# Altium integrated library TI Power Management Supervisor and Reset IC.IntLib: 819 symbols (part 5 of 30)
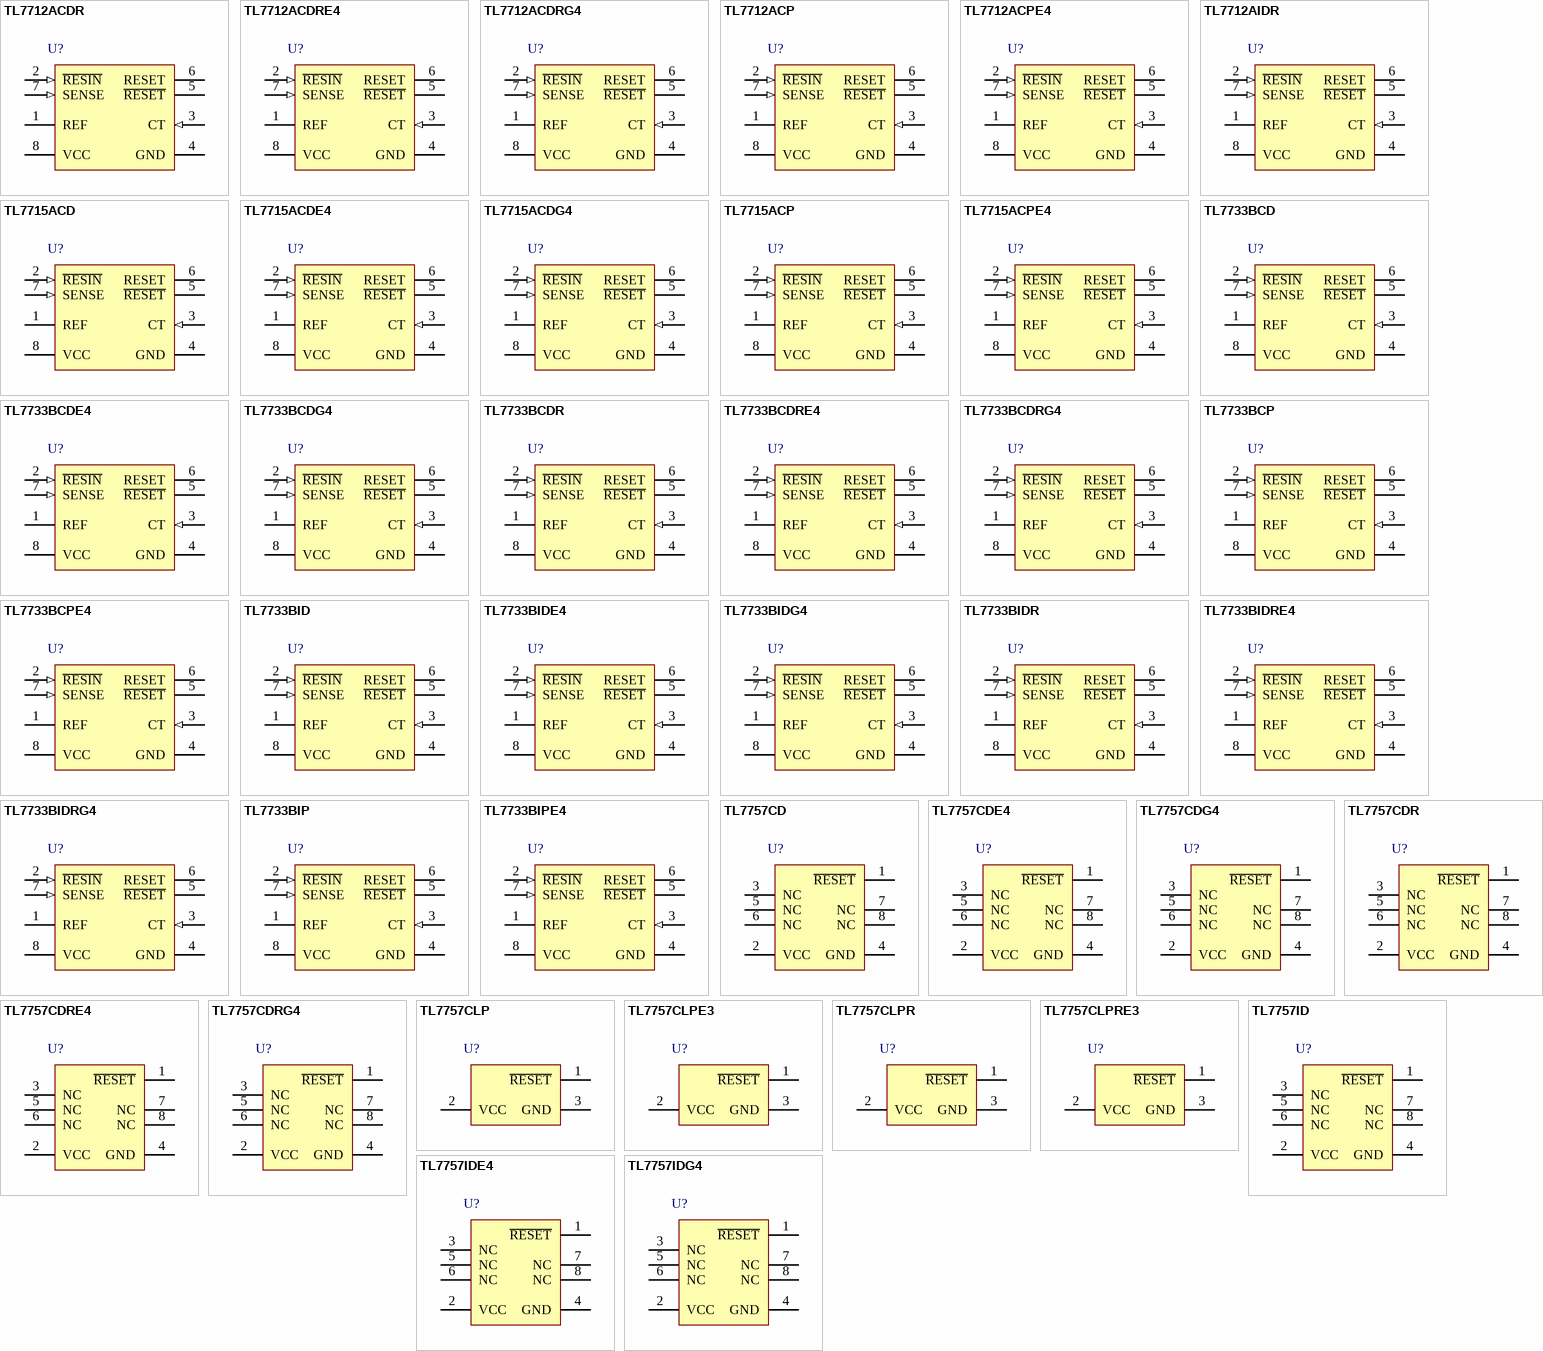
[diagram p25: symbols TL7712ACDR to TL7757IDG4]

## TL7733BCDRG4
designator U?
Single Supply-Voltage Supervisor, 1 Supply Monitored, 0 to 70 degC, 8-pin SOIC (D), Green (RoHS & no Sb/Br); Manufacturer: Texas Instruments; PartNumber: TL7733BCDRG4; # of supplies monitored: 1; Iq(Typ)(uA): 1800; Output Driver Type / Reset Output: Active-low, Open-drain, Active-high, Open-drain; Rating: Catalog; Reset Threshold Accuracy(%): 2.6; SubFamily: Supervisor and Reset IC; Threshold Voltage 1 (typ)(Typ)(V): 3.08; Time Delay(ms): Programmable; VCC(Max)(V): 18; VCC(Min)(V): 3.6; DatasheetVersion: SLVS037M; PackageVersion: revM, Jun-2011; PackageReference: D8; PackageDescription: 8-Pin Plastic Small Outline Integrated Circuit, 4.9 x 3.9 mm, Pitch 1.27 mm Pitch; Supplier 1: Digi-Key; Supplier Part Number 1: TL7733BCDRG4-ND; Supplier 2: Newark; Supplier Part Number 2: 41M5810; Supplier 3: Mouser; Supplier Part Number 3: 595-TL7733BCDRG4; Mounting Technology: Surface Mount; Code_JEDEC: MS-012AA; ComponentLink1Description: Datasheet; ComponentLink1URL: http://www.ti.com/general/docs/lit/getliterature.tsp?genericPartNumber=TL7733B&fileType=pdf
footprint D8_N (SOIC, 8-Leads, Body 4.9x3.9mm, Pitch 1.27mm, IPC Medium Density)
footprint D8_L (SOIC, 8-Leads, Body 4.9x3.9mm, Pitch 1.27mm, IPC High Density)
footprint D8_M (SOIC, 8-Leads, Body 4.9x3.9mm, Pitch 1.27mm, IPC Low Density)
pins: 1 REF, 2 ~{RESIN} (in), 3 CT (in), 4 GND (power), 5 ~{RESET} (oc), 6 RESET (oe), 7 SENSE (in), 8 VCC (power)

## TL7733BCP
designator U?
Single Supply-Voltage Supervisor, 1 Supply Monitored, 0 to 70 degC, 8-pin PDIP (P), Pb-Free (RoHS); Manufacturer: Texas Instruments; PartNumber: TL7733BCP; # of supplies monitored: 1; Iq(Typ)(uA): 1800; Output Driver Type / Reset Output: Active-low, Open-drain, Active-high, Open-drain; Rating: Catalog; Reset Threshold Accuracy(%): 2.6; SubFamily: Supervisor and Reset IC; Threshold Voltage 1 (typ)(Typ)(V): 3.08; Time Delay(ms): Programmable; VCC(Max)(V): 18; VCC(Min)(V): 3.6; DatasheetVersion: SLVS037M; PackageVersion: revE, Apr-2010; PackageReference: P8; PackageDescription: 8-Pin Plastic Dual-In-Line Package, Row Spacing 7.62 mm, Pitch 2.54 mm; Supplier 1: Digi-Key; Supplier Part Number 1: 296-12953-5-ND; Supplier 2: Newark; Supplier Part Number 2: 76C9372; Supplier 3: Mouser; Supplier Part Number 3: 595-TL7733BCP; Mounting Technology: Through Hole; Code_JEDEC: MS-001-BA; ComponentLink1Description: Datasheet; ComponentLink1URL: http://www.ti.com/general/docs/lit/getliterature.tsp?genericPartNumber=TL7733B&fileType=pdf
footprint P8 (DIP, 8-Leads, Row Spacing 7.62mm, Pitch 2.54mm, Body 9.6x6.4mm)
pins: 1 REF, 2 ~{RESIN} (in), 3 CT (in), 4 GND (power), 5 ~{RESET} (oc), 6 RESET (oe), 7 SENSE (in), 8 VCC (power)

## TL7733BCPE4
designator U?
Single Supply-Voltage Supervisor, 1 Supply Monitored, 0 to 70 degC, 8-pin PDIP (P), Pb-Free (RoHS); Manufacturer: Texas Instruments; PartNumber: TL7733BCPE4; # of supplies monitored: 1; Iq(Typ)(uA): 1800; Output Driver Type / Reset Output: Active-low, Open-drain, Active-high, Open-drain; Rating: Catalog; Reset Threshold Accuracy(%): 2.6; SubFamily: Supervisor and Reset IC; Threshold Voltage 1 (typ)(Typ)(V): 3.08; Time Delay(ms): Programmable; VCC(Max)(V): 18; VCC(Min)(V): 3.6; DatasheetVersion: SLVS037M; PackageVersion: revE, Apr-2010; PackageReference: P8; PackageDescription: 8-Pin Plastic Dual-In-Line Package, Row Spacing 7.62 mm, Pitch 2.54 mm; Supplier 1: Digi-Key; Supplier Part Number 1: TL7733BCPE4-ND; Supplier 2: Newark; Supplier Part Number 2: 37K4605; Supplier 3: Mouser; Supplier Part Number 3: 595-TL7733BCPE4; Mounting Technology: Through Hole; Code_JEDEC: MS-001-BA; ComponentLink1Description: Datasheet; ComponentLink1URL: http://www.ti.com/general/docs/lit/getliterature.tsp?genericPartNumber=TL7733B&fileType=pdf
footprint P8 (DIP, 8-Leads, Row Spacing 7.62mm, Pitch 2.54mm, Body 9.6x6.4mm)
pins: 1 REF, 2 ~{RESIN} (in), 3 CT (in), 4 GND (power), 5 ~{RESET} (oc), 6 RESET (oe), 7 SENSE (in), 8 VCC (power)

## TL7733BID
designator U?
Single Supply-Voltage Supervisor, 1 Supply Monitored, -40 to 85 degC, 8-pin SOIC (D), Green (RoHS & no Sb/Br); Manufacturer: Texas Instruments; PartNumber: TL7733BID; # of supplies monitored: 1; Iq(Typ)(uA): 1800; Output Driver Type / Reset Output: Active-low, Open-drain, Active-high, Open-drain; Rating: Catalog; Reset Threshold Accuracy(%): 2.6; SubFamily: Supervisor and Reset IC; Threshold Voltage 1 (typ)(Typ)(V): 3.08; Time Delay(ms): Programmable; VCC(Max)(V): 18; VCC(Min)(V): 3.6; DatasheetVersion: SLVS037M; PackageVersion: revM, Jun-2011; PackageReference: D8; PackageDescription: 8-Pin Plastic Small Outline Integrated Circuit, 4.9 x 3.9 mm, Pitch 1.27 mm Pitch; Supplier 1: Digi-Key; Supplier Part Number 1: TL7733BID-ND; Supplier 2: Newark; Supplier Part Number 2: 76C9373; Supplier 3: Mouser; Supplier Part Number 3: 595-TL7733BID; Mounting Technology: Surface Mount; Code_JEDEC: MS-012AA; ComponentLink1Description: Datasheet; ComponentLink1URL: http://www.ti.com/general/docs/lit/getliterature.tsp?genericPartNumber=TL7733B&fileType=pdf
footprint D8_N (SOIC, 8-Leads, Body 4.9x3.9mm, Pitch 1.27mm, IPC Medium Density)
footprint D8_L (SOIC, 8-Leads, Body 4.9x3.9mm, Pitch 1.27mm, IPC High Density)
footprint D8_M (SOIC, 8-Leads, Body 4.9x3.9mm, Pitch 1.27mm, IPC Low Density)
pins: 1 REF, 2 ~{RESIN} (in), 3 CT (in), 4 GND (power), 5 ~{RESET} (oc), 6 RESET (oe), 7 SENSE (in), 8 VCC (power)

## TL7733BIDE4
designator U?
Single Supply-Voltage Supervisor, 1 Supply Monitored, -40 to 85 degC, 8-pin SOIC (D), Green (RoHS & no Sb/Br); Manufacturer: Texas Instruments; PartNumber: TL7733BIDE4; # of supplies monitored: 1; Iq(Typ)(uA): 1800; Output Driver Type / Reset Output: Active-low, Open-drain, Active-high, Open-drain; Rating: Catalog; Reset Threshold Accuracy(%): 2.6; SubFamily: Supervisor and Reset IC; Threshold Voltage 1 (typ)(Typ)(V): 3.08; Time Delay(ms): Programmable; VCC(Max)(V): 18; VCC(Min)(V): 3.6; DatasheetVersion: SLVS037M; PackageVersion: revM, Jun-2011; PackageReference: D8; PackageDescription: 8-Pin Plastic Small Outline Integrated Circuit, 4.9 x 3.9 mm, Pitch 1.27 mm Pitch; Supplier 1: Digi-Key; Supplier Part Number 1: TL7733BIDE4-ND; Supplier 2: Newark; Supplier Part Number 2: 37K4606; Supplier 3: Mouser; Supplier Part Number 3: 595-TL7733BIDE4; Mounting Technology: Surface Mount; Code_JEDEC: MS-012AA; ComponentLink1Description: Datasheet; ComponentLink1URL: http://www.ti.com/general/docs/lit/getliterature.tsp?genericPartNumber=TL7733B&fileType=pdf
footprint D8_N (SOIC, 8-Leads, Body 4.9x3.9mm, Pitch 1.27mm, IPC Medium Density)
footprint D8_L (SOIC, 8-Leads, Body 4.9x3.9mm, Pitch 1.27mm, IPC High Density)
footprint D8_M (SOIC, 8-Leads, Body 4.9x3.9mm, Pitch 1.27mm, IPC Low Density)
pins: 1 REF, 2 ~{RESIN} (in), 3 CT (in), 4 GND (power), 5 ~{RESET} (oc), 6 RESET (oe), 7 SENSE (in), 8 VCC (power)

## TL7733BIDG4
designator U?
Single Supply-Voltage Supervisor, 1 Supply Monitored, -40 to 85 degC, 8-pin SOIC (D), Green (RoHS & no Sb/Br); Manufacturer: Texas Instruments; PartNumber: TL7733BIDG4; # of supplies monitored: 1; Iq(Typ)(uA): 1800; Output Driver Type / Reset Output: Active-low, Open-drain, Active-high, Open-drain; Rating: Catalog; Reset Threshold Accuracy(%): 2.6; SubFamily: Supervisor and Reset IC; Threshold Voltage 1 (typ)(Typ)(V): 3.08; Time Delay(ms): Programmable; VCC(Max)(V): 18; VCC(Min)(V): 3.6; DatasheetVersion: SLVS037M; PackageVersion: revM, Jun-2011; PackageReference: D8; PackageDescription: 8-Pin Plastic Small Outline Integrated Circuit, 4.9 x 3.9 mm, Pitch 1.27 mm Pitch; Supplier 1: Digi-Key; Supplier Part Number 1: TL7733BIDG4-ND; Supplier 2: Newark; Supplier Part Number 2: 41M5811; Supplier 3: Mouser; Supplier Part Number 3: 595-TL7733BIDG4; Mounting Technology: Surface Mount; Code_JEDEC: MS-012AA; ComponentLink1Description: Datasheet; ComponentLink1URL: http://www.ti.com/general/docs/lit/getliterature.tsp?genericPartNumber=TL7733B&fileType=pdf
footprint D8_N (SOIC, 8-Leads, Body 4.9x3.9mm, Pitch 1.27mm, IPC Medium Density)
footprint D8_L (SOIC, 8-Leads, Body 4.9x3.9mm, Pitch 1.27mm, IPC High Density)
footprint D8_M (SOIC, 8-Leads, Body 4.9x3.9mm, Pitch 1.27mm, IPC Low Density)
pins: 1 REF, 2 ~{RESIN} (in), 3 CT (in), 4 GND (power), 5 ~{RESET} (oc), 6 RESET (oe), 7 SENSE (in), 8 VCC (power)

## TL7733BIDR
designator U?
Single Supply-Voltage Supervisor, 1 Supply Monitored, -40 to 85 degC, 8-pin SOIC (D), Green (RoHS & no Sb/Br); Manufacturer: Texas Instruments; PartNumber: TL7733BIDR; # of supplies monitored: 1; Iq(Typ)(uA): 1800; Output Driver Type / Reset Output: Active-low, Open-drain, Active-high, Open-drain; Rating: Catalog; Reset Threshold Accuracy(%): 2.6; SubFamily: Supervisor and Reset IC; Threshold Voltage 1 (typ)(Typ)(V): 3.08; Time Delay(ms): Programmable; VCC(Max)(V): 18; VCC(Min)(V): 3.6; DatasheetVersion: SLVS037M; PackageVersion: revM, Jun-2011; PackageReference: D8; PackageDescription: 8-Pin Plastic Small Outline Integrated Circuit, 4.9 x 3.9 mm, Pitch 1.27 mm Pitch; Supplier 1: Digi-Key; Supplier Part Number 1: 296-13356-2-ND; Supplier 2: Digi-Key; Supplier Part Number 2: 296-13356-1-ND; Supplier 3: Digi-Key; Supplier Part Number 3: 296-13356-6-ND; Supplier 4: Newark; Supplier Part Number 4: 76C9374; Supplier 5: Mouser; Supplier Part Number 5: 595-TL7733BIDR; Mounting Technology: Surface Mount; Code_JEDEC: MS-012AA; ComponentLink1Description: Datasheet; ComponentLink1URL: http://www.ti.com/general/docs/lit/getliterature.tsp?genericPartNumber=TL7733B&fileType=pdf
footprint D8_N (SOIC, 8-Leads, Body 4.9x3.9mm, Pitch 1.27mm, IPC Medium Density)
footprint D8_L (SOIC, 8-Leads, Body 4.9x3.9mm, Pitch 1.27mm, IPC High Density)
footprint D8_M (SOIC, 8-Leads, Body 4.9x3.9mm, Pitch 1.27mm, IPC Low Density)
pins: 1 REF, 2 ~{RESIN} (in), 3 CT (in), 4 GND (power), 5 ~{RESET} (oc), 6 RESET (oe), 7 SENSE (in), 8 VCC (power)

## TL7733BIDRE4
designator U?
Single Supply-Voltage Supervisor, 1 Supply Monitored, -40 to 85 degC, 8-pin SOIC (D), Green (RoHS & no Sb/Br); Manufacturer: Texas Instruments; PartNumber: TL7733BIDRE4; # of supplies monitored: 1; Iq(Typ)(uA): 1800; Output Driver Type / Reset Output: Active-low, Open-drain, Active-high, Open-drain; Rating: Catalog; Reset Threshold Accuracy(%): 2.6; SubFamily: Supervisor and Reset IC; Threshold Voltage 1 (typ)(Typ)(V): 3.08; Time Delay(ms): Programmable; VCC(Max)(V): 18; VCC(Min)(V): 3.6; DatasheetVersion: SLVS037M; PackageVersion: revM, Jun-2011; PackageReference: D8; PackageDescription: 8-Pin Plastic Small Outline Integrated Circuit, 4.9 x 3.9 mm, Pitch 1.27 mm Pitch; Supplier 1: Digi-Key; Supplier Part Number 1: TL7733BIDRE4-ND; Supplier 2: Newark; Supplier Part Number 2: 37K4607; Supplier 3: Mouser; Supplier Part Number 3: 595-TL7733BIDRE4; Mounting Technology: Surface Mount; Code_JEDEC: MS-012AA; ComponentLink1Description: Datasheet; ComponentLink1URL: http://www.ti.com/general/docs/lit/getliterature.tsp?genericPartNumber=TL7733B&fileType=pdf
footprint D8_N (SOIC, 8-Leads, Body 4.9x3.9mm, Pitch 1.27mm, IPC Medium Density)
footprint D8_L (SOIC, 8-Leads, Body 4.9x3.9mm, Pitch 1.27mm, IPC High Density)
footprint D8_M (SOIC, 8-Leads, Body 4.9x3.9mm, Pitch 1.27mm, IPC Low Density)
pins: 1 REF, 2 ~{RESIN} (in), 3 CT (in), 4 GND (power), 5 ~{RESET} (oc), 6 RESET (oe), 7 SENSE (in), 8 VCC (power)

## TL7733BIDRG4
designator U?
Single Supply-Voltage Supervisor, 1 Supply Monitored, -40 to 85 degC, 8-pin SOIC (D), Green (RoHS & no Sb/Br); Manufacturer: Texas Instruments; PartNumber: TL7733BIDRG4; # of supplies monitored: 1; Iq(Typ)(uA): 1800; Output Driver Type / Reset Output: Active-low, Open-drain, Active-high, Open-drain; Rating: Catalog; Reset Threshold Accuracy(%): 2.6; SubFamily: Supervisor and Reset IC; Threshold Voltage 1 (typ)(Typ)(V): 3.08; Time Delay(ms): Programmable; VCC(Max)(V): 18; VCC(Min)(V): 3.6; DatasheetVersion: SLVS037M; PackageVersion: revM, Jun-2011; PackageReference: D8; PackageDescription: 8-Pin Plastic Small Outline Integrated Circuit, 4.9 x 3.9 mm, Pitch 1.27 mm Pitch; Supplier 1: Digi-Key; Supplier Part Number 1: TL7733BIDRG4-ND; Supplier 2: Newark; Supplier Part Number 2: 41M5812; Supplier 3: Mouser; Supplier Part Number 3: 595-TL7733BIDRG4; Mounting Technology: Surface Mount; Code_JEDEC: MS-012AA; ComponentLink1Description: Datasheet; ComponentLink1URL: http://www.ti.com/general/docs/lit/getliterature.tsp?genericPartNumber=TL7733B&fileType=pdf
footprint D8_N (SOIC, 8-Leads, Body 4.9x3.9mm, Pitch 1.27mm, IPC Medium Density)
footprint D8_L (SOIC, 8-Leads, Body 4.9x3.9mm, Pitch 1.27mm, IPC High Density)
footprint D8_M (SOIC, 8-Leads, Body 4.9x3.9mm, Pitch 1.27mm, IPC Low Density)
pins: 1 REF, 2 ~{RESIN} (in), 3 CT (in), 4 GND (power), 5 ~{RESET} (oc), 6 RESET (oe), 7 SENSE (in), 8 VCC (power)

## TL7733BIP
designator U?
Single Supply-Voltage Supervisor, 1 Supply Monitored, -40 to 85 degC, 8-pin PDIP (P), Pb-Free (RoHS); Manufacturer: Texas Instruments; PartNumber: TL7733BIP; # of supplies monitored: 1; Iq(Typ)(uA): 1800; Output Driver Type / Reset Output: Active-low, Open-drain, Active-high, Open-drain; Rating: Catalog; Reset Threshold Accuracy(%): 2.6; SubFamily: Supervisor and Reset IC; Threshold Voltage 1 (typ)(Typ)(V): 3.08; Time Delay(ms): Programmable; VCC(Max)(V): 18; VCC(Min)(V): 3.6; DatasheetVersion: SLVS037M; PackageVersion: revE, Apr-2010; PackageReference: P8; PackageDescription: 8-Pin Plastic Dual-In-Line Package, Row Spacing 7.62 mm, Pitch 2.54 mm; Supplier 1: Digi-Key; Supplier Part Number 1: 296-13357-5-ND; Supplier 2: Newark; Supplier Part Number 2: 76C9375; Supplier 3: Mouser; Supplier Part Number 3: 595-TL7733BIP; Mounting Technology: Through Hole; Code_JEDEC: MS-001-BA; ComponentLink1Description: Datasheet; ComponentLink1URL: http://www.ti.com/general/docs/lit/getliterature.tsp?genericPartNumber=TL7733B&fileType=pdf
footprint P8 (DIP, 8-Leads, Row Spacing 7.62mm, Pitch 2.54mm, Body 9.6x6.4mm)
pins: 1 REF, 2 ~{RESIN} (in), 3 CT (in), 4 GND (power), 5 ~{RESET} (oc), 6 RESET (oe), 7 SENSE (in), 8 VCC (power)

## TL7733BIPE4
designator U?
Single Supply-Voltage Supervisor, 1 Supply Monitored, -40 to 85 degC, 8-pin PDIP (P), Pb-Free (RoHS); Manufacturer: Texas Instruments; PartNumber: TL7733BIPE4; # of supplies monitored: 1; Iq(Typ)(uA): 1800; Output Driver Type / Reset Output: Active-low, Open-drain, Active-high, Open-drain; Rating: Catalog; Reset Threshold Accuracy(%): 2.6; SubFamily: Supervisor and Reset IC; Threshold Voltage 1 (typ)(Typ)(V): 3.08; Time Delay(ms): Programmable; VCC(Max)(V): 18; VCC(Min)(V): 3.6; DatasheetVersion: SLVS037M; PackageVersion: revE, Apr-2010; PackageReference: P8; PackageDescription: 8-Pin Plastic Dual-In-Line Package, Row Spacing 7.62 mm, Pitch 2.54 mm; Supplier 1: Digi-Key; Supplier Part Number 1: TL7733BIPE4-ND; Supplier 2: Newark; Supplier Part Number 2: 37K4608; Supplier 3: Mouser; Supplier Part Number 3: 595-TL7733BIPE4; Mounting Technology: Through Hole; Code_JEDEC: MS-001-BA; ComponentLink1Description: Datasheet; ComponentLink1URL: http://www.ti.com/general/docs/lit/getliterature.tsp?genericPartNumber=TL7733B&fileType=pdf
footprint P8 (DIP, 8-Leads, Row Spacing 7.62mm, Pitch 2.54mm, Body 9.6x6.4mm)
pins: 1 REF, 2 ~{RESIN} (in), 3 CT (in), 4 GND (power), 5 ~{RESET} (oc), 6 RESET (oe), 7 SENSE (in), 8 VCC (power)

## TL7757CD
designator U?
Supply-Voltage Supervisor and Precision Voltage Detector, 1 Supply Monitored, 0 to 70 degC, 8-pin SOIC (D), Green (RoHS & no Sb/Br); Manufacturer: Texas Instruments; PartNumber: TL7757CD; # of supplies monitored: 1; Iq(Typ)(uA): 1400; Output Driver Type / Reset Output: Active-low, Open-drain; Rating: Military; Reset Threshold Accuracy(%): 2.6; SubFamily: Supervisor and Reset IC; Threshold Voltage 1 (typ)(Typ)(V): 4.55; VCC(Max)(V): 7; DatasheetVersion: SLVS041I; PackageVersion: revM, Jun-2011; PackageReference: D8; PackageDescription: 8-Pin Plastic Small Outline Integrated Circuit, 4.9 x 3.9 mm, Pitch 1.27 mm Pitch; Supplier 1: Digi-Key; Supplier Part Number 1: 296-3257-5-ND; Supplier 2: Newark; Supplier Part Number 2: 12C1488; Supplier 3: Mouser; Supplier Part Number 3: 595-TL7757CD; VCC(Min)(V): 1; Mounting Technology: Surface Mount; Code_JEDEC: MS-012AA; ComponentLink1Description: Datasheet; ComponentLink1URL: http://www.ti.com/general/docs/lit/getliterature.tsp?genericPartNumber=TL7757&fileType=pdf
footprint D8_N (SOIC, 8-Leads, Body 4.9x3.9mm, Pitch 1.27mm, IPC Medium Density)
footprint D8_L (SOIC, 8-Leads, Body 4.9x3.9mm, Pitch 1.27mm, IPC High Density)
footprint D8_M (SOIC, 8-Leads, Body 4.9x3.9mm, Pitch 1.27mm, IPC Low Density)
pins: 1 ~{RESET} (oc), 2 VCC (power), 3 NC, 4 GND (power), 5 NC, 6 NC, 7 NC, 8 NC

## TL7757CDE4
designator U?
Supply-Voltage Supervisor and Precision Voltage Detector, 1 Supply Monitored, 0 to 70 degC, 8-pin SOIC (D), Green (RoHS & no Sb/Br); Manufacturer: Texas Instruments; PartNumber: TL7757CDE4; # of supplies monitored: 1; Iq(Typ)(uA): 1400; Output Driver Type / Reset Output: Active-low, Open-drain; Rating: Military; Reset Threshold Accuracy(%): 2.6; SubFamily: Supervisor and Reset IC; Threshold Voltage 1 (typ)(Typ)(V): 4.55; VCC(Max)(V): 7; DatasheetVersion: SLVS041I; PackageVersion: revM, Jun-2011; PackageReference: D8; PackageDescription: 8-Pin Plastic Small Outline Integrated Circuit, 4.9 x 3.9 mm, Pitch 1.27 mm Pitch; Supplier 1: Digi-Key; Supplier Part Number 1: TL7757CDE4-ND; Supplier 2: Newark; Supplier Part Number 2: 37K4609; Supplier 3: Mouser; Supplier Part Number 3: 595-TL7757CDE4; VCC(Min)(V): 1; Mounting Technology: Surface Mount; Code_JEDEC: MS-012AA; ComponentLink1Description: Datasheet; ComponentLink1URL: http://www.ti.com/general/docs/lit/getliterature.tsp?genericPartNumber=TL7757&fileType=pdf
footprint D8_N (SOIC, 8-Leads, Body 4.9x3.9mm, Pitch 1.27mm, IPC Medium Density)
footprint D8_L (SOIC, 8-Leads, Body 4.9x3.9mm, Pitch 1.27mm, IPC High Density)
footprint D8_M (SOIC, 8-Leads, Body 4.9x3.9mm, Pitch 1.27mm, IPC Low Density)
pins: 1 ~{RESET} (oc), 2 VCC (power), 3 NC, 4 GND (power), 5 NC, 6 NC, 7 NC, 8 NC

## TL7757CDG4
designator U?
Supply-Voltage Supervisor and Precision Voltage Detector, 1 Supply Monitored, 0 to 70 degC, 8-pin SOIC (D), Green (RoHS & no Sb/Br); Manufacturer: Texas Instruments; PartNumber: TL7757CDG4; # of supplies monitored: 1; Iq(Typ)(uA): 1400; Output Driver Type / Reset Output: Active-low, Open-drain; Rating: Military; Reset Threshold Accuracy(%): 2.6; SubFamily: Supervisor and Reset IC; Threshold Voltage 1 (typ)(Typ)(V): 4.55; VCC(Max)(V): 7; DatasheetVersion: SLVS041I; PackageVersion: revM, Jun-2011; PackageReference: D8; PackageDescription: 8-Pin Plastic Small Outline Integrated Circuit, 4.9 x 3.9 mm, Pitch 1.27 mm Pitch; Supplier 1: Digi-Key; Supplier Part Number 1: TL7757CDG4-ND; Supplier 2: Newark; Supplier Part Number 2: 41M5813; Supplier 3: Mouser; Supplier Part Number 3: 595-TL7757CDG4; VCC(Min)(V): 1; Mounting Technology: Surface Mount; Code_JEDEC: MS-012AA; ComponentLink1Description: Datasheet; ComponentLink1URL: http://www.ti.com/general/docs/lit/getliterature.tsp?genericPartNumber=TL7757&fileType=pdf
footprint D8_N (SOIC, 8-Leads, Body 4.9x3.9mm, Pitch 1.27mm, IPC Medium Density)
footprint D8_L (SOIC, 8-Leads, Body 4.9x3.9mm, Pitch 1.27mm, IPC High Density)
footprint D8_M (SOIC, 8-Leads, Body 4.9x3.9mm, Pitch 1.27mm, IPC Low Density)
pins: 1 ~{RESET} (oc), 2 VCC (power), 3 NC, 4 GND (power), 5 NC, 6 NC, 7 NC, 8 NC

## TL7757CDR
designator U?
Supply-Voltage Supervisor and Precision Voltage Detector, 1 Supply Monitored, 0 to 70 degC, 8-pin SOIC (D), Green (RoHS & no Sb/Br); Manufacturer: Texas Instruments; PartNumber: TL7757CDR; # of supplies monitored: 1; Iq(Typ)(uA): 1400; Output Driver Type / Reset Output: Active-low, Open-drain; Rating: Military; Reset Threshold Accuracy(%): 2.6; SubFamily: Supervisor and Reset IC; Threshold Voltage 1 (typ)(Typ)(V): 4.55; VCC(Max)(V): 7; DatasheetVersion: SLVS041I; PackageVersion: revM, Jun-2011; PackageReference: D8; PackageDescription: 8-Pin Plastic Small Outline Integrated Circuit, 4.9 x 3.9 mm, Pitch 1.27 mm Pitch; Supplier 1: Digi-Key; Supplier Part Number 1: 296-15023-2-ND; Supplier 2: Digi-Key; Supplier Part Number 2: 296-15023-1-ND; Supplier 3: Digi-Key; Supplier Part Number 3: 296-15023-6-ND; Supplier 4: Newark; Supplier Part Number 4: 76C9376; Supplier 5: Mouser; Supplier Part Number 5: 595-TL7757CDR; VCC(Min)(V): 1; Mounting Technology: Surface Mount; Code_JEDEC: MS-012AA; ComponentLink1Description: Datasheet; ComponentLink1URL: http://www.ti.com/general/docs/lit/getliterature.tsp?genericPartNumber=TL7757&fileType=pdf
footprint D8_N (SOIC, 8-Leads, Body 4.9x3.9mm, Pitch 1.27mm, IPC Medium Density)
footprint D8_L (SOIC, 8-Leads, Body 4.9x3.9mm, Pitch 1.27mm, IPC High Density)
footprint D8_M (SOIC, 8-Leads, Body 4.9x3.9mm, Pitch 1.27mm, IPC Low Density)
pins: 1 ~{RESET} (oc), 2 VCC (power), 3 NC, 4 GND (power), 5 NC, 6 NC, 7 NC, 8 NC

## TL7757CDRE4
designator U?
Supply-Voltage Supervisor and Precision Voltage Detector, 1 Supply Monitored, 0 to 70 degC, 8-pin SOIC (D), Green (RoHS & no Sb/Br); Manufacturer: Texas Instruments; PartNumber: TL7757CDRE4; # of supplies monitored: 1; Iq(Typ)(uA): 1400; Output Driver Type / Reset Output: Active-low, Open-drain; Rating: Military; Reset Threshold Accuracy(%): 2.6; SubFamily: Supervisor and Reset IC; Threshold Voltage 1 (typ)(Typ)(V): 4.55; VCC(Max)(V): 7; DatasheetVersion: SLVS041I; PackageVersion: revM, Jun-2011; PackageReference: D8; PackageDescription: 8-Pin Plastic Small Outline Integrated Circuit, 4.9 x 3.9 mm, Pitch 1.27 mm Pitch; Supplier 1: Digi-Key; Supplier Part Number 1: TL7757CDRE4-ND; Supplier 2: Newark; Supplier Part Number 2: 37K4610; Supplier 3: Mouser; Supplier Part Number 3: 595-TL7757CDRE4; VCC(Min)(V): 1; Mounting Technology: Surface Mount; Code_JEDEC: MS-012AA; ComponentLink1Description: Datasheet; ComponentLink1URL: http://www.ti.com/general/docs/lit/getliterature.tsp?genericPartNumber=TL7757&fileType=pdf
footprint D8_N (SOIC, 8-Leads, Body 4.9x3.9mm, Pitch 1.27mm, IPC Medium Density)
footprint D8_L (SOIC, 8-Leads, Body 4.9x3.9mm, Pitch 1.27mm, IPC High Density)
footprint D8_M (SOIC, 8-Leads, Body 4.9x3.9mm, Pitch 1.27mm, IPC Low Density)
pins: 1 ~{RESET} (oc), 2 VCC (power), 3 NC, 4 GND (power), 5 NC, 6 NC, 7 NC, 8 NC

## TL7757CDRG4
designator U?
Supply-Voltage Supervisor and Precision Voltage Detector, 1 Supply Monitored, 0 to 70 degC, 8-pin SOIC (D), Green (RoHS & no Sb/Br); Manufacturer: Texas Instruments; PartNumber: TL7757CDRG4; # of supplies monitored: 1; Iq(Typ)(uA): 1400; Output Driver Type / Reset Output: Active-low, Open-drain; Rating: Military; Reset Threshold Accuracy(%): 2.6; SubFamily: Supervisor and Reset IC; Threshold Voltage 1 (typ)(Typ)(V): 4.55; VCC(Max)(V): 7; DatasheetVersion: SLVS041I; PackageVersion: revM, Jun-2011; PackageReference: D8; PackageDescription: 8-Pin Plastic Small Outline Integrated Circuit, 4.9 x 3.9 mm, Pitch 1.27 mm Pitch; Supplier 1: Digi-Key; Supplier Part Number 1: TL7757CDRG4-ND; Supplier 2: Newark; Supplier Part Number 2: 41M5814; Supplier 3: Mouser; Supplier Part Number 3: 595-TL7757CDRG4; VCC(Min)(V): 1; Mounting Technology: Surface Mount; Code_JEDEC: MS-012AA; ComponentLink1Description: Datasheet; ComponentLink1URL: http://www.ti.com/general/docs/lit/getliterature.tsp?genericPartNumber=TL7757&fileType=pdf
footprint D8_N (SOIC, 8-Leads, Body 4.9x3.9mm, Pitch 1.27mm, IPC Medium Density)
footprint D8_L (SOIC, 8-Leads, Body 4.9x3.9mm, Pitch 1.27mm, IPC High Density)
footprint D8_M (SOIC, 8-Leads, Body 4.9x3.9mm, Pitch 1.27mm, IPC Low Density)
pins: 1 ~{RESET} (oc), 2 VCC (power), 3 NC, 4 GND (power), 5 NC, 6 NC, 7 NC, 8 NC

## TL7757CLP
designator U?
Supply-Voltage Supervisor and Precision Voltage Detector, 1 Supply Monitored, 0 to 70 degC, 3-pin TO-92 (LP), Pb-Free (RoHS); Manufacturer: Texas Instruments; PartNumber: TL7757CLP; # of supplies monitored: 1; Iq(Typ)(uA): 1400; Output Driver Type / Reset Output: Active-low, Open-drain; Rating: Military; Reset Threshold Accuracy(%): 2.6; SubFamily: Supervisor and Reset IC; Threshold Voltage 1 (typ)(Typ)(V): 4.55; VCC(Max)(V): 7; DatasheetVersion: SLVS041I; PackageVersion: revC, Oct-2001; PackageReference: LP3; PackageDescription: Plastic Cylindrical Package, Formed Lead Option (TO-92); Supplier 1: Digi-Key; Supplier Part Number 1: 296-1992-ND; Supplier 2: Newark; Supplier Part Number 2: 14P7549; Supplier 3: Mouser; Supplier Part Number 3: 595-TL7757CLP; VCC(Min)(V): 1; Mounting Technology: Through Hole; Code_JEDEC: TO-226-AA; ComponentLink1Description: Datasheet; ComponentLink1URL: http://www.ti.com/general/docs/lit/getliterature.tsp?genericPartNumber=TL7757&fileType=pdf
footprint LP3 (TO, Flat Index; 3 In-Line, Formed Axial Leads; Body Dia. 4.8mm; Leads 0.56 x 0.41 mm (max))
pins: 1 ~{RESET} (oc), 2 VCC (power), 3 GND (power)

## TL7757CLPE3
designator U?
Supply-Voltage Supervisor and Precision Voltage Detector, 1 Supply Monitored, 0 to 70 degC, 3-pin TO-92 (LP), Pb-Free (RoHS); Manufacturer: Texas Instruments; PartNumber: TL7757CLPE3; # of supplies monitored: 1; Iq(Typ)(uA): 1400; Output Driver Type / Reset Output: Active-low, Open-drain; Rating: Military; Reset Threshold Accuracy(%): 2.6; SubFamily: Supervisor and Reset IC; Threshold Voltage 1 (typ)(Typ)(V): 4.55; VCC(Max)(V): 7; DatasheetVersion: SLVS041I; PackageVersion: revC, Oct-2001; PackageReference: LP3; PackageDescription: Plastic Cylindrical Package, Formed Lead Option (TO-92); Supplier 1: Digi-Key; Supplier Part Number 1: TL7757CLPE3-ND; Supplier 2: Newark; Supplier Part Number 2: 67K8556; Supplier 3: Mouser; Supplier Part Number 3: 595-TL7757CLPE3; VCC(Min)(V): 1; Mounting Technology: Through Hole; Code_JEDEC: TO-226-AA; ComponentLink1Description: Datasheet; ComponentLink1URL: http://www.ti.com/general/docs/lit/getliterature.tsp?genericPartNumber=TL7757&fileType=pdf
footprint LP3 (TO, Flat Index; 3 In-Line, Formed Axial Leads; Body Dia. 4.8mm; Leads 0.56 x 0.41 mm (max))
pins: 1 ~{RESET} (oc), 2 VCC (power), 3 GND (power)

## TL7757CLPR
designator U?
Supply-Voltage Supervisor and Precision Voltage Detector, 1 Supply Monitored, 0 to 70 degC, 3-pin TO-92 (LP), Pb-Free (RoHS); Manufacturer: Texas Instruments; PartNumber: TL7757CLPR; # of supplies monitored: 1; Iq(Typ)(uA): 1400; Output Driver Type / Reset Output: Active-low, Open-drain; Rating: Military; Reset Threshold Accuracy(%): 2.6; SubFamily: Supervisor and Reset IC; Threshold Voltage 1 (typ)(Typ)(V): 4.55; VCC(Max)(V): 7; DatasheetVersion: SLVS041I; PackageVersion: revC, Oct-2001; PackageReference: LP3; PackageDescription: Plastic Cylindrical Package, Formed Lead Option (TO-92); Supplier 1: Digi-Key; Supplier Part Number 1: 296-1992-2-ND; Supplier 2: Digi-Key; Supplier Part Number 2: 296-1992-1-ND; Supplier 3: Newark; Supplier Part Number 3: 76C9377; Supplier 4: Mouser; Supplier Part Number 4: 595-TL7757CLPR; VCC(Min)(V): 1; Mounting Technology: Through Hole; Code_JEDEC: TO-226-AA; ComponentLink1Description: Datasheet; ComponentLink1URL: http://www.ti.com/general/docs/lit/getliterature.tsp?genericPartNumber=TL7757&fileType=pdf
footprint LP3 (TO, Flat Index; 3 In-Line, Formed Axial Leads; Body Dia. 4.8mm; Leads 0.56 x 0.41 mm (max))
pins: 1 ~{RESET} (oc), 2 VCC (power), 3 GND (power)

## TL7757CLPRE3
designator U?
Supply-Voltage Supervisor and Precision Voltage Detector, 1 Supply Monitored, 0 to 70 degC, 3-pin TO-92 (LP), Pb-Free (RoHS); Manufacturer: Texas Instruments; PartNumber: TL7757CLPRE3; # of supplies monitored: 1; Iq(Typ)(uA): 1400; Output Driver Type / Reset Output: Active-low, Open-drain; Rating: Military; Reset Threshold Accuracy(%): 2.6; SubFamily: Supervisor and Reset IC; Threshold Voltage 1 (typ)(Typ)(V): 4.55; Time Delay(ms): 0; VCC(Max)(V): 7; DatasheetVersion: SLVS041I; PackageVersion: revC, Oct-2001; PackageReference: LP3; PackageDescription: Plastic Cylindrical Package, Formed Lead Option (TO-92); Supplier 1: Digi-Key; Supplier Part Number 1: TL7757CLPRE3-ND; Supplier 2: Newark; Supplier Part Number 2: 67K8557; Supplier 3: Mouser; Supplier Part Number 3: 595-TL7757CLPRE3; VCC(Min)(V): 1; Mounting Technology: Through Hole; Code_JEDEC: TO-226-AA; ComponentLink1Description: Datasheet; ComponentLink1URL: http://www.ti.com/general/docs/lit/getliterature.tsp?genericPartNumber=TL7757&fileType=pdf
footprint LP3 (TO, Flat Index; 3 In-Line, Formed Axial Leads; Body Dia. 4.8mm; Leads 0.56 x 0.41 mm (max))
pins: 1 ~{RESET} (oc), 2 VCC (power), 3 GND (power)

## TL7757ID
designator U?
Supply-Voltage Supervisor and Precision Voltage Detector, 1 Supply Monitored, -40 to 85 degC, 8-pin SOIC (D), Green (RoHS & no Sb/Br); Manufacturer: Texas Instruments; PartNumber: TL7757ID; # of supplies monitored: 1; Iq(Typ)(uA): 1400; Output Driver Type / Reset Output: Active-low, Open-drain; Rating: Military; Reset Threshold Accuracy(%): 2.6; SubFamily: Supervisor and Reset IC; Threshold Voltage 1 (typ)(Typ)(V): 4.55; VCC(Max)(V): 7; DatasheetVersion: SLVS041I; PackageVersion: revM, Jun-2011; PackageReference: D8; PackageDescription: 8-Pin Plastic Small Outline Integrated Circuit, 4.9 x 3.9 mm, Pitch 1.27 mm Pitch; Supplier 1: Digi-Key; Supplier Part Number 1: 296-3260-5-ND; Supplier 2: Newark; Supplier Part Number 2: 76C9378; Supplier 3: Mouser; Supplier Part Number 3: 595-TL7757ID; VCC(Min)(V): 1; Mounting Technology: Surface Mount; Code_JEDEC: MS-012AA; ComponentLink1Description: Datasheet; ComponentLink1URL: http://www.ti.com/general/docs/lit/getliterature.tsp?genericPartNumber=TL7757&fileType=pdf
footprint D8_N (SOIC, 8-Leads, Body 4.9x3.9mm, Pitch 1.27mm, IPC Medium Density)
footprint D8_L (SOIC, 8-Leads, Body 4.9x3.9mm, Pitch 1.27mm, IPC High Density)
footprint D8_M (SOIC, 8-Leads, Body 4.9x3.9mm, Pitch 1.27mm, IPC Low Density)
pins: 1 ~{RESET} (oc), 2 VCC (power), 3 NC, 4 GND (power), 5 NC, 6 NC, 7 NC, 8 NC

## TL7757IDE4
designator U?
Supply-Voltage Supervisor and Precision Voltage Detector, 1 Supply Monitored, -40 to 85 degC, 8-pin SOIC (D), Green (RoHS & no Sb/Br); Manufacturer: Texas Instruments; PartNumber: TL7757IDE4; # of supplies monitored: 1; Iq(Typ)(uA): 1400; Output Driver Type / Reset Output: Active-low, Open-drain; Rating: Military; Reset Threshold Accuracy(%): 2.6; SubFamily: Supervisor and Reset IC; Threshold Voltage 1 (typ)(Typ)(V): 4.55; Time Delay(ms): 0; VCC(Max)(V): 7; DatasheetVersion: SLVS041I; PackageVersion: revM, Jun-2011; PackageReference: D8; PackageDescription: 8-Pin Plastic Small Outline Integrated Circuit, 4.9 x 3.9 mm, Pitch 1.27 mm Pitch; Supplier 1: Digi-Key; Supplier Part Number 1: TL7757IDE4-ND; Supplier 2: Newark; Supplier Part Number 2: 37K4611; Supplier 3: Mouser; Supplier Part Number 3: 595-TL7757IDE4; VCC(Min)(V): 1; Mounting Technology: Surface Mount; Code_JEDEC: MS-012AA; ComponentLink1Description: Datasheet; ComponentLink1URL: http://www.ti.com/general/docs/lit/getliterature.tsp?genericPartNumber=TL7757&fileType=pdf
footprint D8_N (SOIC, 8-Leads, Body 4.9x3.9mm, Pitch 1.27mm, IPC Medium Density)
footprint D8_L (SOIC, 8-Leads, Body 4.9x3.9mm, Pitch 1.27mm, IPC High Density)
footprint D8_M (SOIC, 8-Leads, Body 4.9x3.9mm, Pitch 1.27mm, IPC Low Density)
pins: 1 ~{RESET} (oc), 2 VCC (power), 3 NC, 4 GND (power), 5 NC, 6 NC, 7 NC, 8 NC

## TL7757IDG4
designator U?
Supply-Voltage Supervisor and Precision Voltage Detector, 1 Supply Monitored, -40 to 85 degC, 8-pin SOIC (D), Green (RoHS & no Sb/Br); Manufacturer: Texas Instruments; PartNumber: TL7757IDG4; # of supplies monitored: 1; Iq(Typ)(uA): 1400; Output Driver Type / Reset Output: Active-low, Open-drain; Rating: Military; Reset Threshold Accuracy(%): 2.6; SubFamily: Supervisor and Reset IC; Threshold Voltage 1 (typ)(Typ)(V): 4.55; VCC(Max)(V): 7; DatasheetVersion: SLVS041I; PackageVersion: revM, Jun-2011; PackageReference: D8; PackageDescription: 8-Pin Plastic Small Outline Integrated Circuit, 4.9 x 3.9 mm, Pitch 1.27 mm Pitch; Supplier 1: Digi-Key; Supplier Part Number 1: TL7757IDG4-ND; Supplier 2: Newark; Supplier Part Number 2: 41M5815; Supplier 3: Mouser; Supplier Part Number 3: 595-TL7757IDG4; VCC(Min)(V): 1; Mounting Technology: Surface Mount; Code_JEDEC: MS-012AA; ComponentLink1Description: Datasheet; ComponentLink1URL: http://www.ti.com/general/docs/lit/getliterature.tsp?genericPartNumber=TL7757&fileType=pdf
footprint D8_N (SOIC, 8-Leads, Body 4.9x3.9mm, Pitch 1.27mm, IPC Medium Density)
footprint D8_L (SOIC, 8-Leads, Body 4.9x3.9mm, Pitch 1.27mm, IPC High Density)
footprint D8_M (SOIC, 8-Leads, Body 4.9x3.9mm, Pitch 1.27mm, IPC Low Density)
pins: 1 ~{RESET} (oc), 2 VCC (power), 3 NC, 4 GND (power), 5 NC, 6 NC, 7 NC, 8 NC

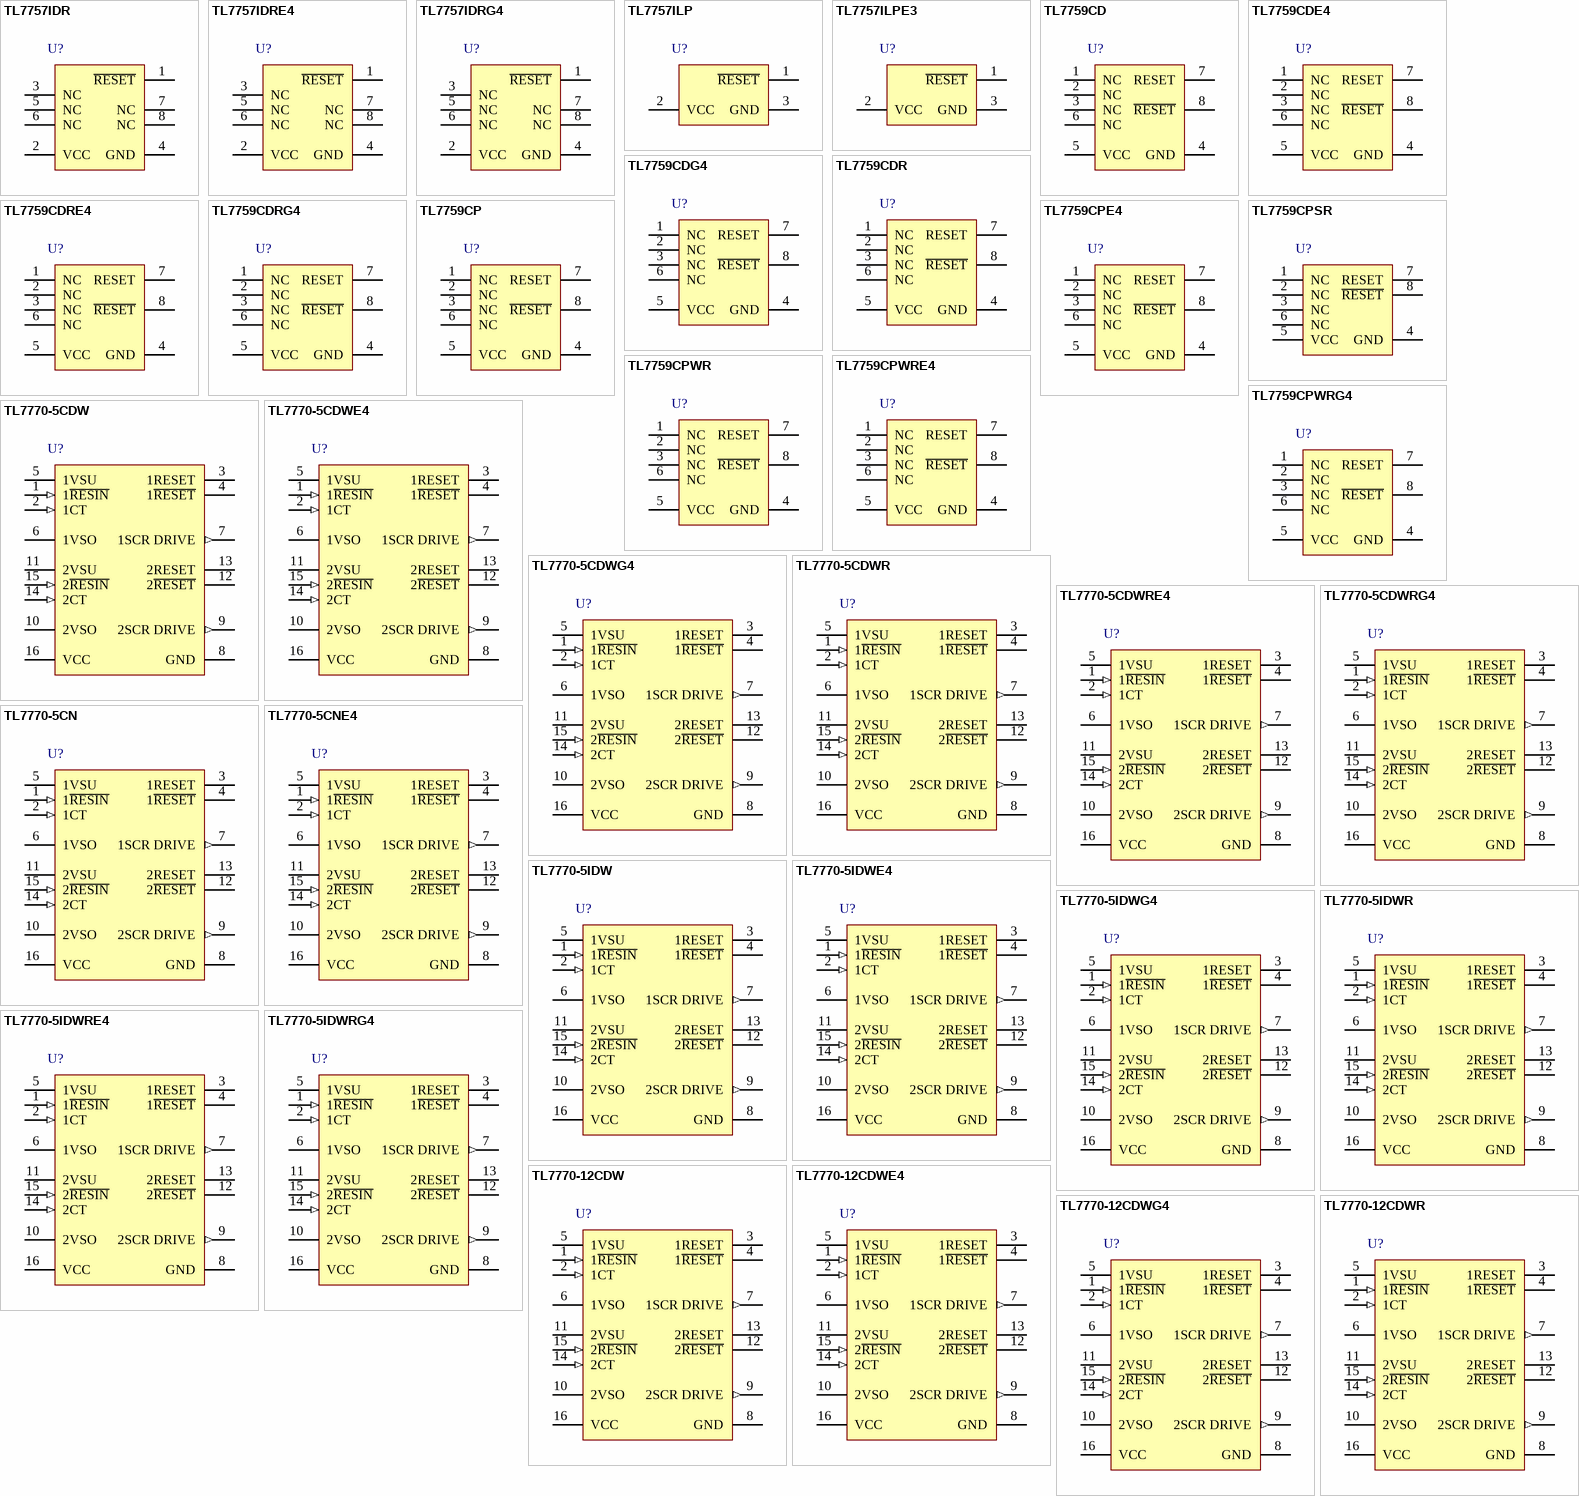
[diagram p4: symbols TL7757IDR to TL7770-12CDWR]

## TL7757IDR
designator U?
Supply-Voltage Supervisor and Precision Voltage Detector, 1 Supply Monitored, -40 to 85 degC, 8-pin SOIC (D), Green (RoHS & no Sb/Br); Manufacturer: Texas Instruments; PartNumber: TL7757IDR; # of supplies monitored: 1; Iq(Typ)(uA): 1400; Output Driver Type / Reset Output: Active-low, Open-drain; Rating: Military; Reset Threshold Accuracy(%): 2.6; SubFamily: Supervisor and Reset IC; Threshold Voltage 1 (typ)(Typ)(V): 4.55; VCC(Max)(V): 7; DatasheetVersion: SLVS041I; PackageVersion: revM, Jun-2011; PackageReference: D8; PackageDescription: 8-Pin Plastic Small Outline Integrated Circuit, 4.9 x 3.9 mm, Pitch 1.27 mm Pitch; Supplier 1: Digi-Key; Supplier Part Number 1: 296-31952-2-ND; Supplier 2: Digi-Key; Supplier Part Number 2: 296-31952-1-ND; Supplier 3: Digi-Key; Supplier Part Number 3: 296-31952-6-ND; Supplier 4: Newark; Supplier Part Number 4: 76C9379; Supplier 5: Mouser; Supplier Part Number 5: 595-TL7757IDR; VCC(Min)(V): 1; Mounting Technology: Surface Mount; Code_JEDEC: MS-012AA; ComponentLink1Description: Datasheet; ComponentLink1URL: http://www.ti.com/general/docs/lit/getliterature.tsp?genericPartNumber=TL7757&fileType=pdf
footprint D8_N (SOIC, 8-Leads, Body 4.9x3.9mm, Pitch 1.27mm, IPC Medium Density)
footprint D8_L (SOIC, 8-Leads, Body 4.9x3.9mm, Pitch 1.27mm, IPC High Density)
footprint D8_M (SOIC, 8-Leads, Body 4.9x3.9mm, Pitch 1.27mm, IPC Low Density)
pins: 1 ~{RESET} (oc), 2 VCC (power), 3 NC, 4 GND (power), 5 NC, 6 NC, 7 NC, 8 NC

## TL7757IDRE4
designator U?
Supply-Voltage Supervisor and Precision Voltage Detector, 1 Supply Monitored, -40 to 85 degC, 8-pin SOIC (D), Green (RoHS & no Sb/Br); Manufacturer: Texas Instruments; PartNumber: TL7757IDRE4; # of supplies monitored: 1; Iq(Typ)(uA): 1400; Output Driver Type / Reset Output: Active-low, Open-drain; Rating: Military; Reset Threshold Accuracy(%): 2.6; SubFamily: Supervisor and Reset IC; Threshold Voltage 1 (typ)(Typ)(V): 4.55; VCC(Max)(V): 7; DatasheetVersion: SLVS041I; PackageVersion: revM, Jun-2011; PackageReference: D8; PackageDescription: 8-Pin Plastic Small Outline Integrated Circuit, 4.9 x 3.9 mm, Pitch 1.27 mm Pitch; Supplier 1: Digi-Key; Supplier Part Number 1: TL7757IDRE4-ND; Supplier 2: Newark; Supplier Part Number 2: 37K4612; Supplier 3: Mouser; Supplier Part Number 3: 595-TL7757IDRE4; VCC(Min)(V): 1; Mounting Technology: Surface Mount; Code_JEDEC: MS-012AA; ComponentLink1Description: Datasheet; ComponentLink1URL: http://www.ti.com/general/docs/lit/getliterature.tsp?genericPartNumber=TL7757&fileType=pdf
footprint D8_N (SOIC, 8-Leads, Body 4.9x3.9mm, Pitch 1.27mm, IPC Medium Density)
footprint D8_L (SOIC, 8-Leads, Body 4.9x3.9mm, Pitch 1.27mm, IPC High Density)
footprint D8_M (SOIC, 8-Leads, Body 4.9x3.9mm, Pitch 1.27mm, IPC Low Density)
pins: 1 ~{RESET} (oc), 2 VCC (power), 3 NC, 4 GND (power), 5 NC, 6 NC, 7 NC, 8 NC

## TL7757IDRG4
designator U?
Supply-Voltage Supervisor and Precision Voltage Detector, 1 Supply Monitored, -40 to 85 degC, 8-pin SOIC (D), Green (RoHS & no Sb/Br); Manufacturer: Texas Instruments; PartNumber: TL7757IDRG4; # of supplies monitored: 1; Iq(Typ)(uA): 1400; Output Driver Type / Reset Output: Active-low, Open-drain; Rating: Military; Reset Threshold Accuracy(%): 2.6; SubFamily: Supervisor and Reset IC; Threshold Voltage 1 (typ)(Typ)(V): 4.55; VCC(Max)(V): 7; DatasheetVersion: SLVS041I; PackageVersion: revM, Jun-2011; PackageReference: D8; PackageDescription: 8-Pin Plastic Small Outline Integrated Circuit, 4.9 x 3.9 mm, Pitch 1.27 mm Pitch; Supplier 1: Digi-Key; Supplier Part Number 1: TL7757IDRG4-ND; Supplier 2: Newark; Supplier Part Number 2: 41M5816; Supplier 3: Mouser; Supplier Part Number 3: 595-TL7757IDRG4; VCC(Min)(V): 1; Mounting Technology: Surface Mount; Code_JEDEC: MS-012AA; ComponentLink1Description: Datasheet; ComponentLink1URL: http://www.ti.com/general/docs/lit/getliterature.tsp?genericPartNumber=TL7757&fileType=pdf
footprint D8_N (SOIC, 8-Leads, Body 4.9x3.9mm, Pitch 1.27mm, IPC Medium Density)
footprint D8_L (SOIC, 8-Leads, Body 4.9x3.9mm, Pitch 1.27mm, IPC High Density)
footprint D8_M (SOIC, 8-Leads, Body 4.9x3.9mm, Pitch 1.27mm, IPC Low Density)
pins: 1 ~{RESET} (oc), 2 VCC (power), 3 NC, 4 GND (power), 5 NC, 6 NC, 7 NC, 8 NC

## TL7757ILP
designator U?
Supply-Voltage Supervisor and Precision Voltage Detector, 1 Supply Monitored, -40 to 85 degC, 3-pin TO-92 (LP), Pb-Free (RoHS); Manufacturer: Texas Instruments; PartNumber: TL7757ILP; # of supplies monitored: 1; Iq(Typ)(uA): 1400; Output Driver Type / Reset Output: Active-low, Open-drain; Rating: Military; Reset Threshold Accuracy(%): 2.6; SubFamily: Supervisor and Reset IC; Threshold Voltage 1 (typ)(Typ)(V): 4.55; VCC(Max)(V): 7; DatasheetVersion: SLVS041I; PackageVersion: revC, Oct-2001; PackageReference: LP3; PackageDescription: Plastic Cylindrical Package, Formed Lead Option (TO-92); Supplier 1: Digi-Key; Supplier Part Number 1: 296-3261-5-ND; Supplier 2: Newark; Supplier Part Number 2: 95B1767; Supplier 3: Mouser; Supplier Part Number 3: 595-TL7757ILP; VCC(Min)(V): 1; Mounting Technology: Through Hole; Code_JEDEC: TO-226-AA; ComponentLink1Description: Datasheet; ComponentLink1URL: http://www.ti.com/general/docs/lit/getliterature.tsp?genericPartNumber=TL7757&fileType=pdf
footprint LP3 (TO, Flat Index; 3 In-Line, Formed Axial Leads; Body Dia. 4.8mm; Leads 0.56 x 0.41 mm (max))
pins: 1 ~{RESET} (oc), 2 VCC (power), 3 GND (power)

## TL7757ILPE3
designator U?
Supply-Voltage Supervisor and Precision Voltage Detector, 1 Supply Monitored, -40 to 85 degC, 3-pin TO-92 (LP), Pb-Free (RoHS); Manufacturer: Texas Instruments; PartNumber: TL7757ILPE3; # of supplies monitored: 1; Iq(Typ)(uA): 1400; Output Driver Type / Reset Output: Active-low, Open-drain; Rating: Military; Reset Threshold Accuracy(%): 2.6; SubFamily: Supervisor and Reset IC; Threshold Voltage 1 (typ)(Typ)(V): 4.55; VCC(Max)(V): 7; DatasheetVersion: SLVS041I; PackageVersion: revC, Oct-2001; PackageReference: LP3; PackageDescription: Plastic Cylindrical Package, Formed Lead Option (TO-92); Supplier 1: Digi-Key; Supplier Part Number 1: TL7757ILPE3-ND; Supplier 2: Newark; Supplier Part Number 2: 67K8558; Supplier 3: Mouser; Supplier Part Number 3: 595-TL7757ILPE3; VCC(Min)(V): 1; Mounting Technology: Through Hole; Code_JEDEC: TO-226-AA; ComponentLink1Description: Datasheet; ComponentLink1URL: http://www.ti.com/general/docs/lit/getliterature.tsp?genericPartNumber=TL7757&fileType=pdf
footprint LP3 (TO, Flat Index; 3 In-Line, Formed Axial Leads; Body Dia. 4.8mm; Leads 0.56 x 0.41 mm (max))
pins: 1 ~{RESET} (oc), 2 VCC (power), 3 GND (power)

## TL7759CD
designator U?
4-Terminal Supply Voltage Supervisor for 5 V Systems, 1 Supply Monitored, 0 to 70 degC, 8-pin SOIC (D), Green (RoHS & no Sb/Br); Manufacturer: Texas Instruments; PartNumber: TL7759CD; # of supplies monitored: 1; Iq(Typ)(uA): 1400; Output Driver Type / Reset Output: Active-low, Open-drain, Active-high, Open-drain; Rating: Catalog; Reset Threshold Accuracy(%): 2.6; SubFamily: Supervisor and Reset IC; Threshold Voltage 1 (typ)(Typ)(V): 4.55; VCC(Max)(V): 7; DatasheetVersion: SLVS042D; PackageVersion: revM, Jun-2011; PackageReference: D8; PackageDescription: 8-Pin Plastic Small Outline Integrated Circuit, 4.9 x 3.9 mm, Pitch 1.27 mm Pitch; Supplier 1: Digi-Key; Supplier Part Number 1: 296-3263-5-ND; Supplier 2: Newark; Supplier Part Number 2: 76C9382; Supplier 3: Mouser; Supplier Part Number 3: 595-TL7759CD; VCC(Min)(V): 1; Mounting Technology: Surface Mount; Code_JEDEC: MS-012AA; ComponentLink1Description: Datasheet; ComponentLink1URL: http://www.ti.com/general/docs/lit/getliterature.tsp?genericPartNumber=TL7759&fileType=pdf
footprint D8_N (SOIC, 8-Leads, Body 4.9x3.9mm, Pitch 1.27mm, IPC Medium Density)
footprint D8_L (SOIC, 8-Leads, Body 4.9x3.9mm, Pitch 1.27mm, IPC High Density)
footprint D8_M (SOIC, 8-Leads, Body 4.9x3.9mm, Pitch 1.27mm, IPC Low Density)
pins: 1 NC, 2 NC, 3 NC, 4 GND (power), 5 VCC (power), 6 NC, 7 RESET (oe), 8 ~{RESET} (oc)

## TL7759CDE4
designator U?
4-Terminal Supply Voltage Supervisor for 5 V Systems, 1 Supply Monitored, 0 to 70 degC, 8-pin SOIC (D), Green (RoHS & no Sb/Br); Manufacturer: Texas Instruments; PartNumber: TL7759CDE4; # of supplies monitored: 1; Iq(Typ)(uA): 1400; Output Driver Type / Reset Output: Active-low, Open-drain, Active-high, Open-drain; Rating: Catalog; Reset Threshold Accuracy(%): 2.6; SubFamily: Supervisor and Reset IC; Threshold Voltage 1 (typ)(Typ)(V): 4.55; VCC(Max)(V): 7; DatasheetVersion: SLVS042D; PackageVersion: revM, Jun-2011; PackageReference: D8; PackageDescription: 8-Pin Plastic Small Outline Integrated Circuit, 4.9 x 3.9 mm, Pitch 1.27 mm Pitch; Supplier 1: Digi-Key; Supplier Part Number 1: TL7759CDE4-ND; Supplier 2: Newark; Supplier Part Number 2: 37K4613; Supplier 3: Mouser; Supplier Part Number 3: 595-TL7759CDE4; VCC(Min)(V): 1; Mounting Technology: Surface Mount; Code_JEDEC: MS-012AA; ComponentLink1Description: Datasheet; ComponentLink1URL: http://www.ti.com/general/docs/lit/getliterature.tsp?genericPartNumber=TL7759&fileType=pdf
footprint D8_N (SOIC, 8-Leads, Body 4.9x3.9mm, Pitch 1.27mm, IPC Medium Density)
footprint D8_L (SOIC, 8-Leads, Body 4.9x3.9mm, Pitch 1.27mm, IPC High Density)
footprint D8_M (SOIC, 8-Leads, Body 4.9x3.9mm, Pitch 1.27mm, IPC Low Density)
pins: 1 NC, 2 NC, 3 NC, 4 GND (power), 5 VCC (power), 6 NC, 7 RESET (oe), 8 ~{RESET} (oc)

## TL7759CDG4
designator U?
4-Terminal Supply Voltage Supervisor for 5 V Systems, 1 Supply Monitored, 0 to 70 degC, 8-pin SOIC (D), Green (RoHS & no Sb/Br); Manufacturer: Texas Instruments; PartNumber: TL7759CDG4; # of supplies monitored: 1; Iq(Typ)(uA): 1400; Output Driver Type / Reset Output: Active-low, Open-drain, Active-high, Open-drain; Rating: Catalog; Reset Threshold Accuracy(%): 2.6; SubFamily: Supervisor and Reset IC; Threshold Voltage 1 (typ)(Typ)(V): 4.55; VCC(Max)(V): 7; DatasheetVersion: SLVS042D; PackageVersion: revM, Jun-2011; PackageReference: D8; PackageDescription: 8-Pin Plastic Small Outline Integrated Circuit, 4.9 x 3.9 mm, Pitch 1.27 mm Pitch; Supplier 1: Digi-Key; Supplier Part Number 1: TL7759CDG4-ND; Supplier 2: Newark; Supplier Part Number 2: 41M5817; Supplier 3: Mouser; Supplier Part Number 3: 595-TL7759CDG4; VCC(Min)(V): 1; Mounting Technology: Surface Mount; Code_JEDEC: MS-012AA; ComponentLink1Description: Datasheet; ComponentLink1URL: http://www.ti.com/general/docs/lit/getliterature.tsp?genericPartNumber=TL7759&fileType=pdf
footprint D8_N (SOIC, 8-Leads, Body 4.9x3.9mm, Pitch 1.27mm, IPC Medium Density)
footprint D8_L (SOIC, 8-Leads, Body 4.9x3.9mm, Pitch 1.27mm, IPC High Density)
footprint D8_M (SOIC, 8-Leads, Body 4.9x3.9mm, Pitch 1.27mm, IPC Low Density)
pins: 1 NC, 2 NC, 3 NC, 4 GND (power), 5 VCC (power), 6 NC, 7 RESET (oe), 8 ~{RESET} (oc)

## TL7759CDR
designator U?
4-Terminal Supply Voltage Supervisor for 5 V Systems, 1 Supply Monitored, 0 to 70 degC, 8-pin SOIC (D), Green (RoHS & no Sb/Br); Manufacturer: Texas Instruments; PartNumber: TL7759CDR; # of supplies monitored: 1; Iq(Typ)(uA): 1400; Output Driver Type / Reset Output: Active-low, Open-drain, Active-high, Open-drain; Rating: Catalog; Reset Threshold Accuracy(%): 2.6; SubFamily: Supervisor and Reset IC; Threshold Voltage 1 (typ)(Typ)(V): 4.55; VCC(Max)(V): 7; DatasheetVersion: SLVS042D; PackageVersion: revM, Jun-2011; PackageReference: D8; PackageDescription: 8-Pin Plastic Small Outline Integrated Circuit, 4.9 x 3.9 mm, Pitch 1.27 mm Pitch; Supplier 1: Digi-Key; Supplier Part Number 1: 296-24388-2-ND; Supplier 2: Digi-Key; Supplier Part Number 2: 296-24388-1-ND; Supplier 3: Digi-Key; Supplier Part Number 3: 296-24388-6-ND; Supplier 4: Newark; Supplier Part Number 4: 76C9383; Supplier 5: Mouser; Supplier Part Number 5: 595-TL7759CDR; VCC(Min)(V): 1; Mounting Technology: Surface Mount; Code_JEDEC: MS-012AA; ComponentLink1Description: Datasheet; ComponentLink1URL: http://www.ti.com/general/docs/lit/getliterature.tsp?genericPartNumber=TL7759&fileType=pdf
footprint D8_N (SOIC, 8-Leads, Body 4.9x3.9mm, Pitch 1.27mm, IPC Medium Density)
footprint D8_L (SOIC, 8-Leads, Body 4.9x3.9mm, Pitch 1.27mm, IPC High Density)
footprint D8_M (SOIC, 8-Leads, Body 4.9x3.9mm, Pitch 1.27mm, IPC Low Density)
pins: 1 NC, 2 NC, 3 NC, 4 GND (power), 5 VCC (power), 6 NC, 7 RESET (oe), 8 ~{RESET} (oc)

## TL7759CDRE4
designator U?
4-Terminal Supply Voltage Supervisor for 5 V Systems, 1 Supply Monitored, 0 to 70 degC, 8-pin SOIC (D), Green (RoHS & no Sb/Br); Manufacturer: Texas Instruments; PartNumber: TL7759CDRE4; # of supplies monitored: 1; Iq(Typ)(uA): 1400; Output Driver Type / Reset Output: Active-low, Open-drain, Active-high, Open-drain; Rating: Catalog; Reset Threshold Accuracy(%): 2.6; SubFamily: Supervisor and Reset IC; Threshold Voltage 1 (typ)(Typ)(V): 4.55; VCC(Max)(V): 7; DatasheetVersion: SLVS042D; PackageVersion: revM, Jun-2011; PackageReference: D8; PackageDescription: 8-Pin Plastic Small Outline Integrated Circuit, 4.9 x 3.9 mm, Pitch 1.27 mm Pitch; Supplier 1: Digi-Key; Supplier Part Number 1: TL7759CDRE4-ND; Supplier 2: Newark; Supplier Part Number 2: 37K4614; Supplier 3: Mouser; Supplier Part Number 3: 595-TL7759CDRE4; VCC(Min)(V): 1; Mounting Technology: Surface Mount; Code_JEDEC: MS-012AA; ComponentLink1Description: Datasheet; ComponentLink1URL: http://www.ti.com/general/docs/lit/getliterature.tsp?genericPartNumber=TL7759&fileType=pdf
footprint D8_N (SOIC, 8-Leads, Body 4.9x3.9mm, Pitch 1.27mm, IPC Medium Density)
footprint D8_L (SOIC, 8-Leads, Body 4.9x3.9mm, Pitch 1.27mm, IPC High Density)
footprint D8_M (SOIC, 8-Leads, Body 4.9x3.9mm, Pitch 1.27mm, IPC Low Density)
pins: 1 NC, 2 NC, 3 NC, 4 GND (power), 5 VCC (power), 6 NC, 7 RESET (oe), 8 ~{RESET} (oc)

## TL7759CDRG4
designator U?
4-Terminal Supply Voltage Supervisor for 5 V Systems, 1 Supply Monitored, 0 to 70 degC, 8-pin SOIC (D), Green (RoHS & no Sb/Br); Manufacturer: Texas Instruments; PartNumber: TL7759CDRG4; # of supplies monitored: 1; Iq(Typ)(uA): 1400; Output Driver Type / Reset Output: Active-low, Open-drain, Active-high, Open-drain; Rating: Catalog; Reset Threshold Accuracy(%): 2.6; SubFamily: Supervisor and Reset IC; Threshold Voltage 1 (typ)(Typ)(V): 4.55; VCC(Max)(V): 7; DatasheetVersion: SLVS042D; PackageVersion: revM, Jun-2011; PackageReference: D8; PackageDescription: 8-Pin Plastic Small Outline Integrated Circuit, 4.9 x 3.9 mm, Pitch 1.27 mm Pitch; Supplier 1: Digi-Key; Supplier Part Number 1: TL7759CDRG4-ND; Supplier 2: Newark; Supplier Part Number 2: 41M5818; Supplier 3: Mouser; Supplier Part Number 3: 595-TL7759CDRG4; VCC(Min)(V): 1; Mounting Technology: Surface Mount; Code_JEDEC: MS-012AA; ComponentLink1Description: Datasheet; ComponentLink1URL: http://www.ti.com/general/docs/lit/getliterature.tsp?genericPartNumber=TL7759&fileType=pdf
footprint D8_N (SOIC, 8-Leads, Body 4.9x3.9mm, Pitch 1.27mm, IPC Medium Density)
footprint D8_L (SOIC, 8-Leads, Body 4.9x3.9mm, Pitch 1.27mm, IPC High Density)
footprint D8_M (SOIC, 8-Leads, Body 4.9x3.9mm, Pitch 1.27mm, IPC Low Density)
pins: 1 NC, 2 NC, 3 NC, 4 GND (power), 5 VCC (power), 6 NC, 7 RESET (oe), 8 ~{RESET} (oc)

## TL7759CP
designator U?
4-Terminal Supply Voltage Supervisor for 5 V Systems, 1 Supply Monitored, 0 to 70 degC, 8-pin PDIP (P), Pb-Free (RoHS); Manufacturer: Texas Instruments; PartNumber: TL7759CP; # of supplies monitored: 1; Iq(Typ)(uA): 1400; Output Driver Type / Reset Output: Active-low, Open-drain, Active-high, Open-drain; Rating: Catalog; Reset Threshold Accuracy(%): 2.6; SubFamily: Supervisor and Reset IC; Threshold Voltage 1 (typ)(Typ)(V): 4.55; VCC(Max)(V): 7; DatasheetVersion: SLVS042D; PackageVersion: revE, Apr-2010; PackageReference: P8; PackageDescription: 8-Pin Plastic Dual-In-Line Package, Row Spacing 7.62 mm, Pitch 2.54 mm; Supplier 1: Digi-Key; Supplier Part Number 1: 296-3264-5-ND; Supplier 2: Farnell; Supplier Part Number 2: 1236546; Supplier 3: Newark; Supplier Part Number 3: 08F9513; Supplier 4: Mouser; Supplier Part Number 4: 595-TL7759CP; VCC(Min)(V): 1; Mounting Technology: Through Hole; Code_JEDEC: MS-001-BA; ComponentLink1Description: Datasheet; ComponentLink1URL: http://www.ti.com/general/docs/lit/getliterature.tsp?genericPartNumber=TL7759&fileType=pdf
footprint P8 (DIP, 8-Leads, Row Spacing 7.62mm, Pitch 2.54mm, Body 9.6x6.4mm)
pins: 1 NC, 2 NC, 3 NC, 4 GND (power), 5 VCC (power), 6 NC, 7 RESET (oe), 8 ~{RESET} (oc)